# Altium footprint library ZCTX-31main190715.PcbLib: 29 footprints (part 2 of 2)
Each footprint in its own frame and in the unit in brackets; x right, y up, seen from the top. Pads: shape width x height; smd on the part's side, far side on the other; paste and mask are expansions set on the pad; w line width, h text height; cw(c..) or ccw(c..) is an arc to the next point about the centre after c.
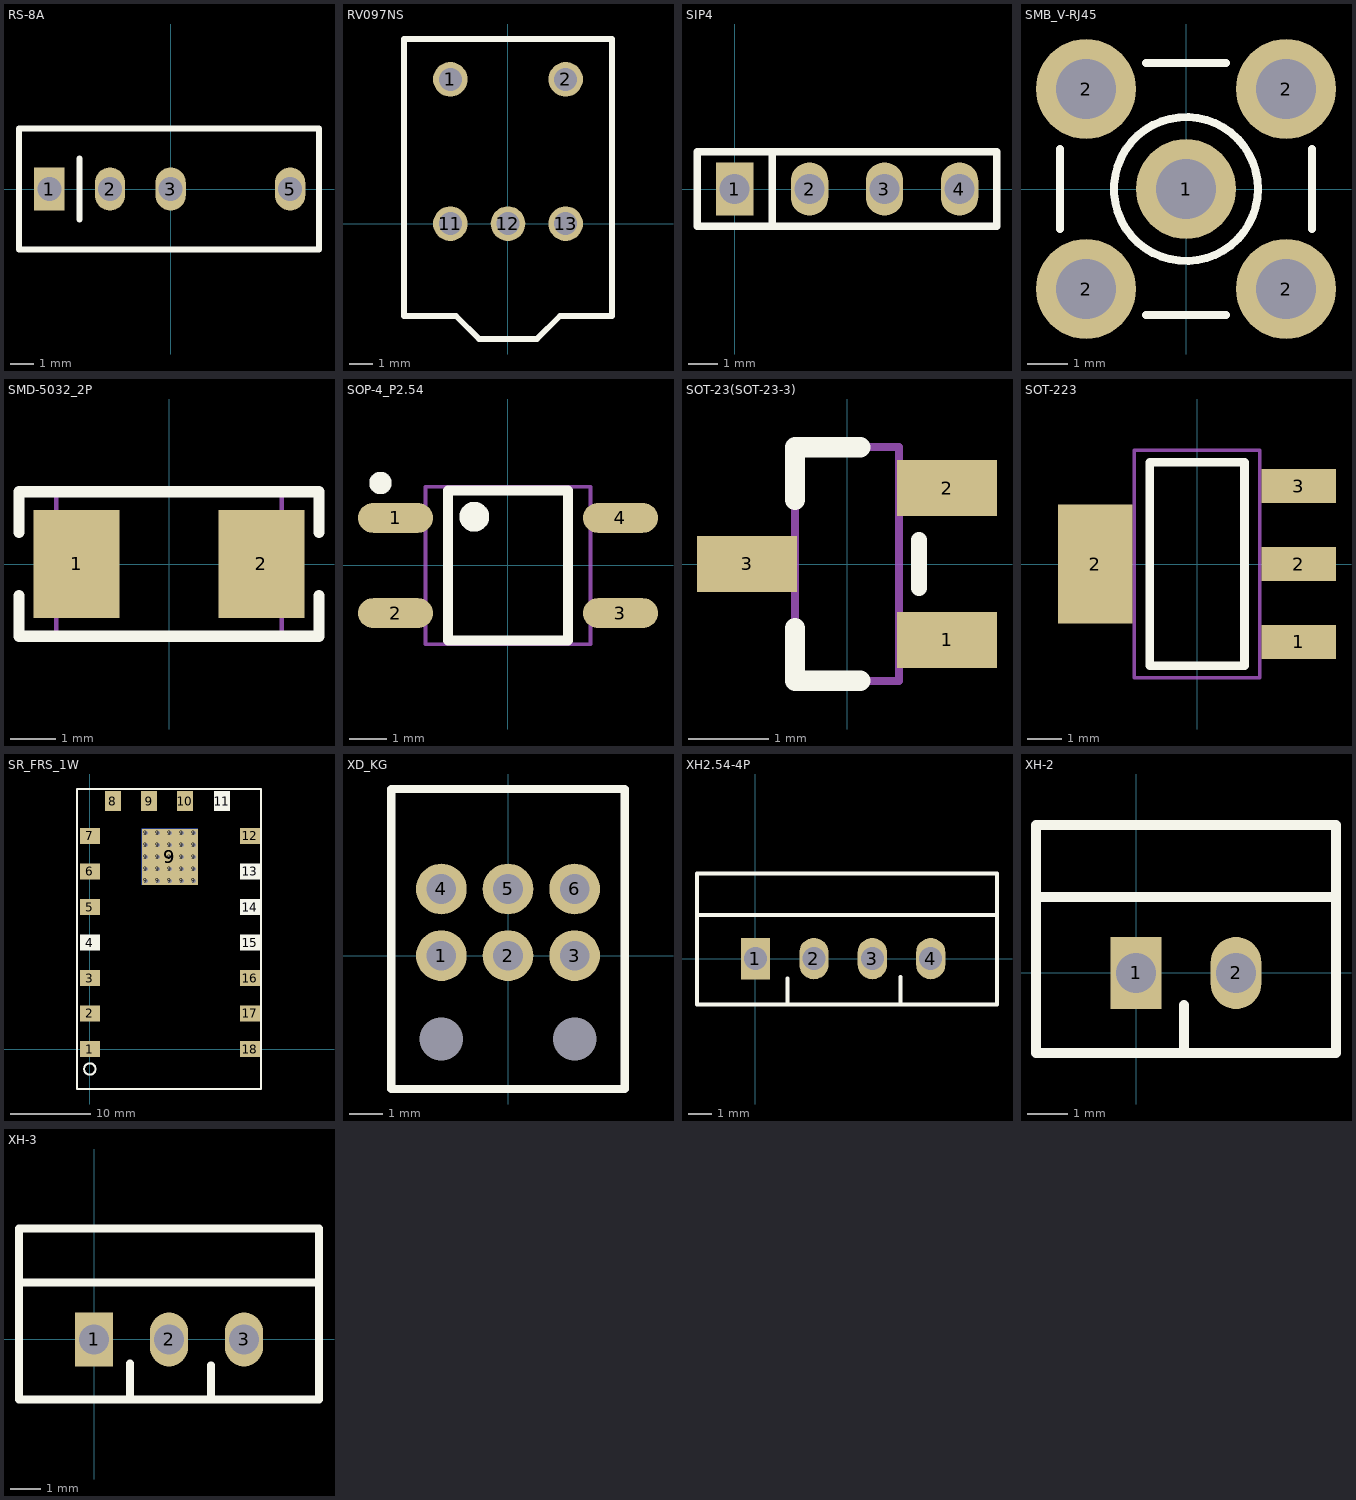
[diagram p1: the footprints below, top view; thin cyan lines are the x and y axes]

## RS-8A [mm]
pads (4):
  rect 1.27x1.8 hole 1: 1(-5.08,0)
  oval 1.27x1.8 hole 1: 2(-2.54,0) 3(0,0) 5(5,0)
Top Overlay:
  lines w0.254: -3.81,-1.27 -3.81,1.27 ; -6.35,-2.54 -6.35,2.54 6.21,2.54 6.21,-2.54 -6.35,-2.54

## RV097NS [mm]
pads (5):
  round 1.5 hole 1: 1(-2.5,6.25) 2(2.5,6.25) 11(-2.5,0) 12(0,0) 13(2.5,0)
Top Overlay:
  lines w0.254: -4.5,-4 -2.25,-4 -1.25,-5 1.25,-5 2.25,-4 4.5,-4 4.5,8 -4.5,8 -4.5,-4

## SIP4 [mm]
pads (4):
  rect 1.27x1.8 hole 1: 1(0,0)
  oval 1.27x1.8 hole 1: 2(2.54,0) 3(5.08,0) 4(7.62,0)
Top Overlay:
  lines w0.254: 1.27,-1.27 1.27,1.27 ; -1.27,-1.27 8.89,-1.27 8.89,1.27 -1.27,1.27 -1.27,-1.27

## SMB_V-RJ45 [mm] "Connector; SMB Straight"
pads (5):
  round 2.5 hole 1.5: 1(0,0) 2(-2.5,-2.5) 2(-2.5,2.5) 2(2.5,-2.5) 2(2.5,2.5)
Top Overlay:
  circle w0.2: c0,0 r1.8
  lines w0.2: -3.15,-1 -3.15,1 ; -1,-3.15 1,-3.15 ; -1,3.15 1,3.15 ; 3.15,-1 3.15,1
Mechanical 1:
  circle w0.025: c0,0 r1.8
  circle w0.025: c0,0 r1.05
  circle w0.025: c0,0 r0.2

## SMD-5032_2P [mm]
pads (2):
  rect 1.9x2.4 smd: 1(-2.05,0) 2(2.05,0)
Top Overlay:
  lines w0.254: -3.325,-0.7 -3.325,-1.6 3.325,-1.6 3.325,-0.7 ; -3.325,0.7 -3.325,1.6 3.325,1.6 3.325,0.7
Mechanical 13:
  lines w0.1: -2.5,-1.6 -2.5,1.6 2.5,1.6 2.5,-1.6 -2.5,-1.6

## SOP-4_P2.54 [mm]
pads (4):
  oval 2x0.8 smd: 1(-3,1.27) 2(-3,-1.27) 3(3,-1.27) 4(3,1.27)
Top Overlay:
  circle w0.4: c-0.9,1.3 r0.2
  circle w0.3: c-3.4,2.2 r0.15
  lines w0.254: -1.6,-2 1.6,-2 1.6,2 -1.6,2 -1.6,-2
Mechanical 13:
  lines w0.1: -2.2,-2.1 2.2,-2.1 2.2,2.1 -2.2,2.1 -2.2,-2.1

## SOT-23(SOT-23-3) [mm]
pads (3):
  rect 1.25x0.7 smd: 1(1.25,-0.95) 2(1.25,0.95) 3(-1.25,0)
Top Overlay:
  lines w0.2: 0.9,-0.3 0.9,0.3
  lines w0.254: -0.65,-0.8 -0.65,-1.46 0.165,-1.46 ; 0.165,1.46 -0.65,1.46 ; -0.65,0.8 -0.65,1.46 ; -0.65,0.8 -0.65,1.46 ; -0.65,0.8 -0.65,1.46
Mechanical 13:
  lines w0.1: -0.65,-1.46 -0.65,1.46 ; -0.65,-1.46 0.65,-1.46 ; -0.65,-1.46 0.65,-1.46 ; -0.65,-1.46 -0.65,1.46 ; -0.65,-1.46 0.65,-1.46 ; -0.65,-1.46 -0.65,1.46 ; -0.65,1.46 0.65,1.46 ; -0.65,1.46 0.65,1.46 ; -0.65,1.46 0.65,1.46 ; 0.65,-1.46 0.65,1.46 ; 0.65,-1.46 0.65,1.46 ; 0.65,-1.46 0.65,1.46
3D body: height 1.3, standoff 0, extent -1.5,-1.5 1.5,1.5

## SOT-223 [mm]
pads (4):
  rect 2.2x1 smd: 1(3,-2.3) 2(3,0) 3(3,2.3)
  rect 2.2x3.5 smd: 2(-3,0)
Top Overlay:
  lines w0.254: -1.4,-3 1.4,-3 1.4,3 -1.4,3 -1.4,-3
Mechanical 13:
  lines w0.1: -1.85,-3.35 -1.85,3.35 1.85,3.35 1.85,-3.35 -1.85,-3.35
3D body: height 1.64, standoff -0.04, extent -3.49,-3.242 3.49,3.243

## SR_FRS_1W [mm]
pads (45):
  rect 2.5x2 smd: 1(0,0) 2(0,4.45) 3(0,8.85) 5(0,17.75) 6(0,22.2) 7(0,26.65) 12(20,26.65) 16(20,8.85) 17(20,4.45) 18(20,0)
  rect 2.5x2 on Top Overlay: 4(0,13.3) 13(20,22.2) 14(20,17.75) 15(20,13.3)
  rect 2x2.5 smd: 8(2.9,31) 9(7.4,31) 10(11.9,31)
  round 1 hole 0.5: 9(7,21) 9(7,22.5) 9(7,24) 9(7,25.5) 9(7,27) 9(8.5,21) 9(8.5,22.5) 9(8.5,24) 9(8.5,25.5) 9(8.5,27) 9(10,21) 9(10,22.5) 9(10,24) 9(10,25.5) 9(10,27) 9(11.5,21) 9(11.5,22.5) 9(11.5,24) 9(11.5,25.5) 9(11.5,27) 9(13,21) 9(13,22.5) 9(13,24) 9(13,25.5) 9(13,27)
  rect 7x7 smd: 9(10,24.003)
  rect 7x7 smd far side: 9(10,24.003)
  rect 2x2.5 on Top Overlay: 11(16.5,31)
Top Overlay:
  circle w0.254: c0,-2.5 r0.707
  lines w0.254: -1.6,-5 21.4,-5 21.4,32.5 -1.6,32.5 -1.6,-5

## XD_KG [mil]
pads (8):
  round 60 hole 35: 1(-78.74,0) 2(0,0) 3(78.74,0) 4(-78.74,78.74) 5(0,78.74) 6(78.74,78.74)
  round 0 / inner round 60 / far side round 60 hole 51.18: 7(-78.74,-98.43) 8(78.74,-98.43)
Top Overlay:
  lines w10: -137.8,-157.48 -137.8,196.85 137.8,196.85 137.8,-157.48 -137.8,-157.48

## XH2.54-4P [mm]
pads (4):
  rect 1.27x1.8 hole 1: 1(0,0)
  oval 1.27x1.8 hole 1: 2(2.54,0) 3(5.08,0) 4(7.62,0)
Top Overlay:
  lines w0.17: -2.54,-2 -2.54,3.7 ; -2.5,-2 10.5,-2 10.5,3.7 -2.5,3.7 ; -2.5,1.9 10.5,1.9 ; 1.4,-2 1.4,-0.86 ; 6.3,-1.94 6.3,-0.8

## XH-2 [mm]
pads (2):
  rect 1.27x1.8 hole 1: 1(0,0)
  oval 1.27x1.8 hole 1: 2(2.5,0)
Top Overlay:
  lines w0.254: -2.5,1.9 5,1.9 ; 1.2,-1.94 1.2,-0.8 ; -2.5,-2 5,-2 5,3.7 -2.5,3.7 -2.5,-2

## XH-3 [mm]
pads (3):
  rect 1.27x1.8 hole 1: 1(0,0)
  oval 1.27x1.8 hole 1: 2(2.5,0) 3(5,0)
Top Overlay:
  lines w0.254: -2.5,1.9 7.5,1.9 ; 1.2,-1.94 1.2,-0.8 ; 3.9,-2 3.9,-0.86 ; -2.5,-2 7.5,-2 7.5,3.7 -2.5,3.7 -2.5,-2